# EAGLE library part BLUE_PILL_3D (library KitDidatico_library v55)
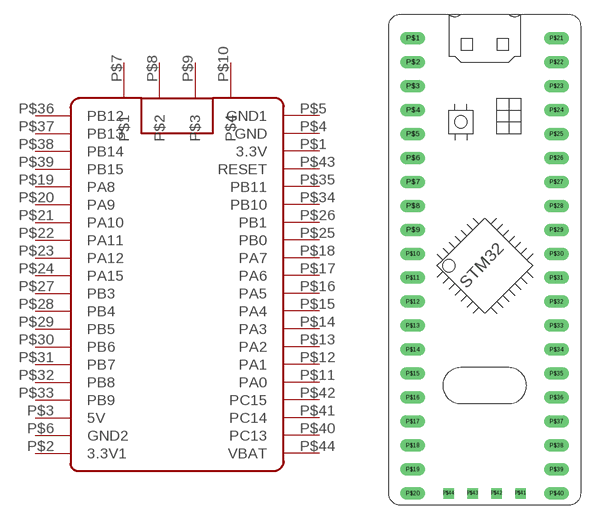
[diagram p1: symbol with the pads of BLUE_PILL_3D; footprint BLUE_PILL_3D]

Designator prefix -

## BLUE_PILL_3D  [BLUE_PILL_3D]
P$1  3.3V
P$2  3.3V1
P$3  5V
P$4  GND
P$5  GND1  pwr
P$6  GND2
P$7  P$1
P$8  P$2
P$9  P$3
P$10  P$4
P$11  PA0
P$12  PA1
P$13  PA2
P$14  PA3
P$15  PA4
P$16  PA5
P$17  PA6
P$18  PA7
P$19  PA8
P$20  PA9
P$21  PA10
P$22  PA11
P$23  PA12
P$24  PA15
P$25  PB0
P$26  PB1
P$27  PB3
P$28  PB4
P$29  PB5
P$30  PB6
P$31  PB7
P$32  PB8
P$33  PB9
P$34  PB10
P$35  PB11
P$36  PB12
P$37  PB13
P$38  PB14
P$39  PB15
P$40  PC13
P$41  PC14
P$42  PC15
P$43  RESET
P$44  VBAT

## Footprint BLUE_PILL_3D (pad centres in mm)
drill 0.8 long: P$1 -7.62,15.24; P$2 -7.62,12.7; P$3 -7.62,10.16; P$4 -7.62,7.62; P$5 -7.62,5.08; P$6 -7.62,2.54; P$7 -7.62,0; P$8 -7.62,-2.54; P$9 -7.62,-5.08; P$10 -7.62,-7.62; P$11 -7.62,-10.16; P$12 -7.62,-12.7; P$13 -7.62,-15.24; P$14 -7.62,-17.78; P$15 -7.62,-20.32; P$16 -7.62,-22.86; P$17 -7.62,-25.4; P$18 -7.62,-27.94; P$19 -7.62,-30.48; P$20 -7.62,-33.02; P$21 7.62,15.24; P$22 7.62,12.7; P$23 7.62,10.16; P$24 7.62,7.62; P$25 7.62,5.08; P$26 7.62,2.54; P$27 7.62,0; P$28 7.62,-2.54; P$29 7.62,-5.08; P$30 7.62,-7.62; P$31 7.62,-10.16; P$32 7.62,-12.7; P$33 7.62,-15.24; P$34 7.62,-17.78; P$35 7.62,-20.32; P$36 7.62,-22.86; P$37 7.62,-25.4; P$38 7.62,-27.94; P$39 7.62,-30.48; P$40 7.62,-33.02
drill 0.6 square: P$41 3.81,-33.02; P$42 1.27,-33.02; P$43 -1.27,-33.02; P$44 -3.81,-33.02